# Altium schematic symbol library BCR.SchLib: 8 symbols
Pins are listed as number, name and electrical type; pins without a type are passive.

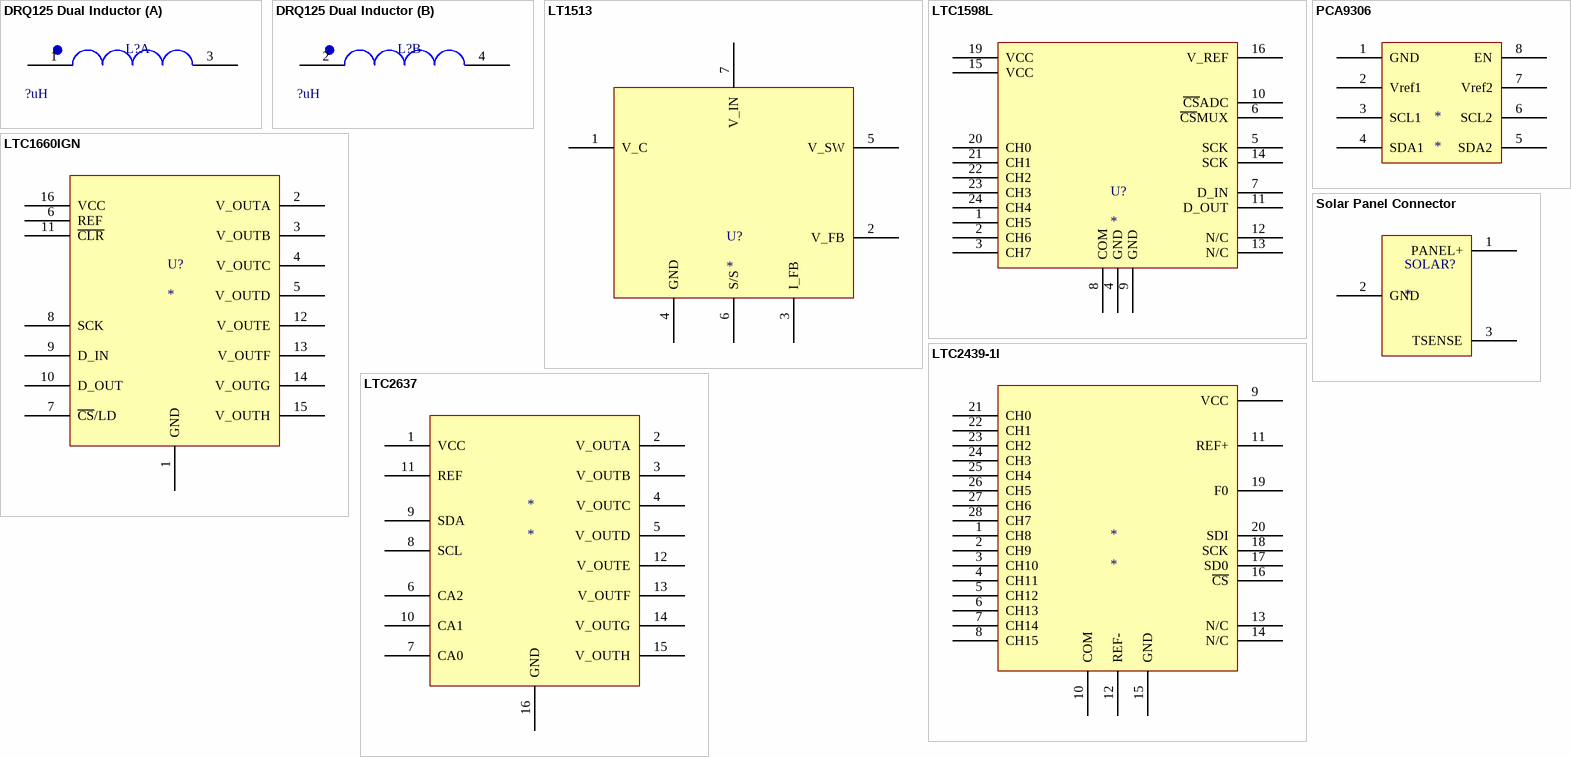
[diagram p0: symbols DRQ125 Dual Inductor to Solar Panel Connector]

## DRQ125 Dual Inductor
designator L?  value ?uH  (hidden comment: *)
footprint DRQ125
part A pins: 1 17, 3 18
part B pins: 2 17, 4 18

## LT1513
designator U?
footprint TO152P1396X238-8N (D2-PAK, 8-Pads, Body 9.4x10.5mm (max), IPC Medium Density)
pins: 1 V_C, 2 V_FB, 3 I_FB, 4 GND, 5 V_SW, 6 S/S, 7 V_IN

## LTC1598L
designator U?
pins: 1 CH5, 2 CH6, 3 CH7, 4 GND, 5 SCK, 6 ~{CS}MUX, 7 D_IN, 8 COM, 9 GND, 10 ~{CS}ADC, 11 D_OUT, 12 N/C, 13 N/C, 14 SCK, 15 VCC, 16 V_REF, 19 VCC, 20 CH0, 21 CH1, 22 CH2, 23 CH3, 24 CH4

## LTC1660IGN
designator U?
footprint LTC2637
pins: 1 GND, 2 V_OUTA, 3 V_OUTB, 4 V_OUTC, 5 V_OUTD, 6 REF, 7 ~{CS}/LD, 8 SCK, 9 D_IN, 10 D_OUT, 11 ~{CLR}, 12 V_OUTE, 13 V_OUTF, 14 V_OUTG, 15 V_OUTH, 16 VCC

## LTC2439-1l
designator *
pins: 1 CH8, 2 CH9, 3 CH10, 4 CH11, 5 CH12, 6 CH13, 7 CH14, 8 CH15, 9 VCC, 10 COM, 11 REF+, 12 REF-, 13 N/C, 14 N/C, 15 GND, 16 ~{CS}, 17 SD0, 18 SCK, 19 F0, 20 SDI, 21 CH0, 22 CH1, 23 CH2, 24 CH3, 25 CH4, 26 CH5, 27 CH6, 28 CH7

## LTC2637
designator *
footprint LTC2637
pins: 1 VCC, 2 V_OUTA, 3 V_OUTB, 4 V_OUTC, 5 V_OUTD, 6 CA2, 7 CA0, 8 SCL, 9 SDA, 10 CA1, 11 REF, 12 V_OUTE, 13 V_OUTF, 14 V_OUTG, 15 V_OUTH, 16 GND

## PCA9306
designator *
footprint TSSOP50P310X90-8N (TSSOP, 8-Leads, Body 2.1x2.4mm (max), Pitch 0.50mm, IPC Medium Density)
pins: 1 GND, 2 Vref1, 3 SCL1, 4 SDA1, 5 SDA2, 6 SCL2, 7 Vref2, 8 EN

## Solar Panel Connector
designator SOLAR?
pins: 1 PANEL+, 2 GND, 3 TSENSE